# Altium integrated library ams_custom.IntLib: 3 symbols
Pins are listed as number, name and electrical type; pins without a type are passive.

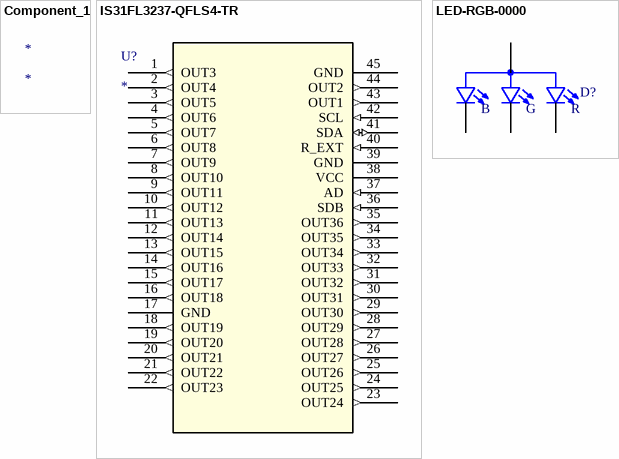
[diagram p0: symbols Component_1 to LED-RGB-0000]

## Component_1
designator *

## IS31FL3237-QFLS4-TR
designator U?
IC LED DRVR LIN PWM 38MA 44QFN; Mfr_Name: ISSI; RefDes: RefDes; Type: Type; ComponentLink1Description: Datasheet; ComponentLink1URL: https://www.lumissil.com/assets/pdf/core/IS31FL3237_DS.pdf
footprint QFN-44_ISI
pins: 1 OUT3 (out), 2 OUT4 (out), 3 OUT5 (out), 4 OUT6 (out), 5 OUT7 (out), 6 OUT8 (out), 7 OUT9 (out), 8 OUT10 (out), 9 OUT11 (out), 10 OUT12 (out), 11 OUT13 (out), 12 OUT14 (out), 13 OUT15 (out), 14 OUT16 (out), 15 OUT17 (out), 16 OUT18 (out), 17 GND (power), 18 OUT19 (out), 19 OUT20 (out), 20 OUT21 (out), 21 OUT22 (out), 22 OUT23 (out), 23 OUT24 (out), 24 OUT25 (out), 25 OUT26 (out), 26 OUT27 (out), 27 OUT28 (out), 28 OUT29 (out), 29 OUT30 (out), 30 OUT31 (out), 31 OUT32 (out), 32 OUT33 (out), 33 OUT34 (out), 34 OUT35 (out), 35 OUT36 (out), 36 SDB (in), 37 AD (in), 38 VCC (power), 39 GND (power), 40 R_EXT (in), 41 SDA (io), 42 SCL (in), 43 OUT1 (out), 44 OUT2 (out), 45 GND (power)

## LED-RGB-0000
designator D?
Red, Green, Blue (RGB) - LED Indication - Discrete 2V Red, 3V Green, 3V Blue 0606 (1616 Metric) / 10mA per LED channel; MF: Harvatek Corporation; MP: B38G3RGB-10D0003H2U1930; Price: None; Purchase-URL: https://pricing.snapeda.com/search/part/B38G3RGB-10D0003H2U1930/?ref=eda; SnapEDA_Link: https://www.snapeda.com/parts/B38G3RGB-10D0003H2U1930/Harvatek/view-part/?ref=snap; Availability: In Stock; Package: None; Check_prices: https://www.snapeda.com/parts/B38G3RGB-10D0003H2U1930/Harvatek/view-part/?ref=eda; ComponentLink1Description: Datasheet; ComponentLink1URL: https://mm.digikey.com/Volume0/opasdata/d220001/medias/docus/2486/B38G3RGB-10D0003H2U1930%20%20V1.9.pdf; Value: *
footprint LED-RGB-0000
pins: 1 G_C, 2 B_C, 3 A, 4 R_C
text: B; G; R